# Altium footprint library Components.PcbLib: 4 footprints
Each footprint in its own frame and in the unit in brackets; x right, y up, seen from the top. Pads: shape width x height; smd on the part's side, far side on the other; paste and mask are expansions set on the pad; w line width, h text height; cw(c..) or ccw(c..) is an arc to the next point about the centre after c.
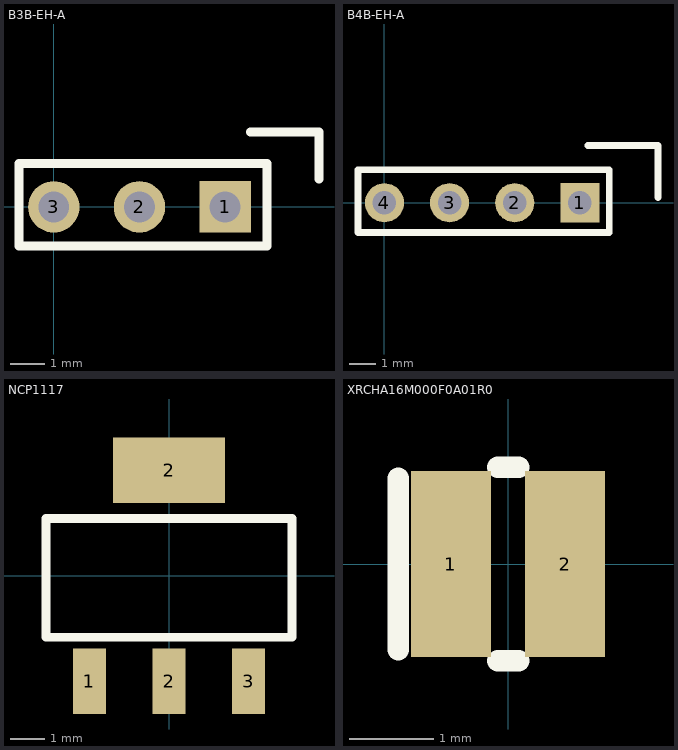
[diagram p0: the footprints below, top view; thin cyan lines are the x and y axes]

## B3B-EH-A [mm] "JST connector 3 pin vert"
pads (3):
  rect 1.5x1.5 hole 0.9: 1(5,0)
  round 1.5 hole 0.9: 2(2.5,0) 3(0,0)
Top Overlay:
  lines w0.254: 5.73,2.19 7.74,2.19 7.74,0.81 ; -1.016,-1.143 6.223,-1.143 6.223,1.27 2.667,1.27 -1.016,1.27 -1.016,-1.143
3D body: height 6, standoff 0, extent -2.37,-1.85 7.57,1.95
3D body: height 0.25, standoff -2, extent -1.4,-1.4 -1.4,-1.4
3D body: height 0.25, standoff -2, extent -1.4,-1.4 -1.4,-1.4

## B4B-EH-A [mm] "4 pin JST connector"
pads (4):
  rect 1.5x1.5 hole 0.9: 1(7.5,0)
  round 1.5 hole 0.9: 2(5,0) 3(2.5,0) 4(0,0)
Top Overlay:
  lines w0.254: 7.8,2.2 8.35,2.2 9.45,2.2 10.5,2.2 10.5,0.2 ; -1.016,-1.143 -1.016,1.27 2.667,1.27 8.636,1.27 8.636,-1.143 -1.016,-1.143
3D body: height 0.25, standoff -2, extent -1.4,-1.4 -1.4,-1.4
3D body: height 0.25, standoff -2, extent -1.4,-1.4 -1.4,-1.4
3D body: height 6, standoff 0, extent -2.44,-1.9 10.06,1.9

## NCP1117 [mm] "Voltage Regulators"
pads (4):
  rect 0.95x1.9 smd: 1(-2.3,-3.05) 2(0,-3.05) 3(2.3,-3.05)
  rect 3.25x1.9 smd: 2(0,3.05)
Top Overlay:
  lines w0.254: -3.556,-1.778 3.556,-1.778 3.556,1.651 -3.556,1.651 -3.556,-1.778

## XRCHA16M000F0A01R0 [mm]
pads (2):
  rect 0.95x2.2 smd: 1(-0.675,0) 2(0.675,0)
Top Overlay:
  lines w0.254: -1.3,-1.016 -1.3,1.016 ; -0.12,-1.143 0.127,-1.143 ; -0.12,1.143 0.127,1.143